# Altium footprint library TRANSISTOR-DIODE.PcbLib: 20 footprints (part 2 of 2)
Each footprint in its own frame and in the unit in brackets; x right, y up, seen from the top. Pads: shape width x height; smd on the part's side, far side on the other; paste and mask are expansions set on the pad; w line width, h text height; cw(c..) or ccw(c..) is an arc to the next point about the centre after c.
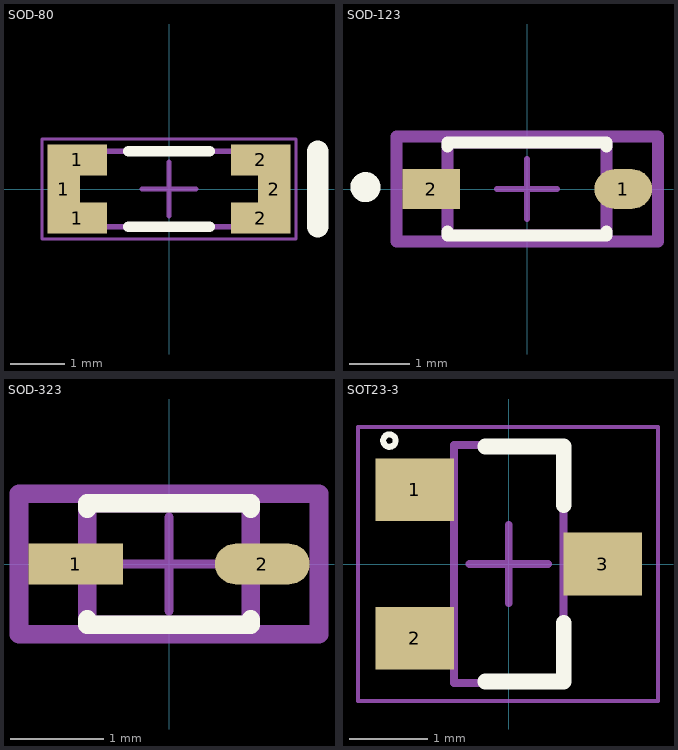
[diagram p1: the footprints below, top view; thin cyan lines are the x and y axes]

## SOD-80 [mm] "SOD, 2-Leads, Body 3.45x1.4mm"
height 1.4
pads (6):
  rect 0.6x1.65 smd: 1(-1.95,0) 2(1.95,0)
  rect 1.1x0.575 smd: 1(-1.7,-0.537) 1(-1.7,0.537) 2(1.7,-0.537) 2(1.7,0.537)
Top Overlay:
  lines w0.2: -0.75,-0.7 0.75,-0.7 ; -0.75,0.7 0.75,0.7
  lines w0.4: 2.75,-0.7 2.75,0.7
Mechanical 13:
  lines w0.1: -1.725,-0.7 -1.725,0.7 1.725,0.7 1.725,-0.7 -1.725,-0.7
Mechanical 15:
  lines w0.05: -2.35,-0.925 -2.35,0.925 2.35,0.925 2.35,-0.925 -2.35,-0.925
  lines w0.1: -0.5,0 0.5,0 ; 0,-0.5 0,0.5
3D body "DIOMELF3414N.step": height 1.4, standoff 0, extent -1.725,-0.695 1.725,0.695

## SOD-123 [mm]
pads (2):
  rrect100% 0.957x0.662 smd paste+0 mask+0: 1(1.6,0)
  rect 0.957x0.662 smd paste+0 mask+0: 2(-1.6,0)
Top Overlay:
  circle w0.25: c-2.695,0.031 r0.125
  lines w0.2: -1.325,-0.706 -1.325,-0.775 1.325,-0.775 1.325,-0.706 ; -1.325,0.706 -1.325,0.775 1.325,0.775 1.325,0.706
Top 3D Body:
  lines w0.2: -1.325,-0.775 1.325,-0.775 1.325,0.775 -1.325,0.775 -1.325,-0.775
Top Courtyard:
  lines w0.2: -2.179,-0.875 2.179,-0.875 2.179,0.875 -2.179,0.875 -2.179,-0.875
Top Assembly:
  lines w0.2: -2.179,-0.875 2.179,-0.875 2.179,0.875 -2.179,0.875 -2.179,-0.875
  text ".Designator" at 0,0.188 h1
Top Component Center:
  lines w0.1: -0.5,0 0.5,0 ; 0,-0.5 0,0.5
3D body "Diode_Diodes_Inc_MMSZ5245B-7-F_eec.STEP": height 0.25, standoff 0, extent -2.179,-0.875 2.179,0.875

## SOD-323 [mm]
pads (2):
  rect 1.012x0.436 smd paste+0 mask+0: 1(-0.998,0)
  rrect100% 1.012x0.436 smd paste+0 mask+0: 2(0.998,0)
Top Overlay:
  lines w0.2: -0.875,-0.593 -0.875,-0.65 0.875,-0.65 0.875,-0.593 ; -0.875,0.593 -0.875,0.65 0.875,0.65 0.875,0.593
Top 3D Body:
  lines w0.2: -0.875,-0.65 -0.875,0.65 0.875,0.65 0.875,-0.65 -0.875,-0.65
Top Courtyard:
  lines w0.2: -1.604,-0.75 -1.604,0.75 1.604,0.75 1.604,-0.75 -1.604,-0.75
Top Assembly:
  lines w0.2: -1.604,-0.75 -1.604,0.75 1.604,0.75 1.604,-0.75 -1.604,-0.75
  text ".Designator" at 0,0.188 h1
Top Component Center:
  lines w0.1: -0.5,0 0.5,0 ; 0,-0.5 0,0.5
3D body "Diode_Bourns_Inc_CDSOD323-T03_eec.STEP": height 0.25, standoff 0, extent -1.604,-0.75 1.604,0.75

## SOT23-3 [mm] "SOT23, 3-Leads, Body 2.92x2.37mm, Pitch 0.95mm, IPC Medium Density"
height 1.11
pads (3):
  rect 1x0.8 smd: 1(-1.2,0.95) 2(-1.2,-0.95) 3(1.2,0)
Top Overlay:
  circle w0.076: c-1.524,1.575 r0.079
  lines w0.2: -0.3,-1.5 0.7,-1.5 0.7,-0.75 ; -0.3,1.5 0.7,1.5 0.7,0.75
Mechanical 13:
  lines w0.1: -0.7,-1.52 0.7,-1.52 0.7,1.52 -0.7,1.52 -0.7,-1.52
Mechanical 15:
  lines w0.05: -1.925,-1.75 1.905,-1.75 1.905,1.75 -1.925,1.75 -1.925,-1.75
  lines w0.1: -0.5,0 0.5,0 ; 0,-0.5 0,0.5
3D body "SOT95P237X111-3N.step": height 1.11, standoff 0, extent -1.32,-1.52 1.32,1.52